# EAGLE library part 74HC (library ArdDisp)
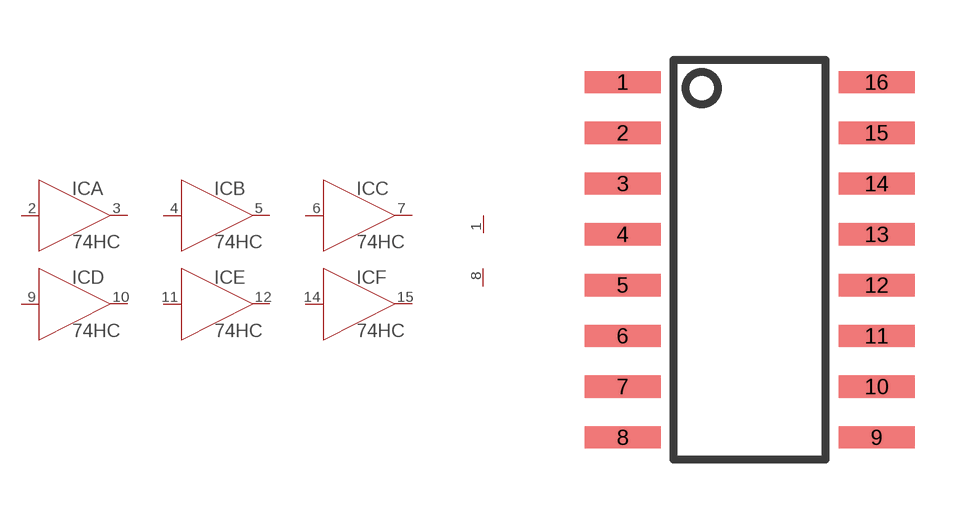
[diagram p17: symbol with the pads of SO16; footprint SO16]

Designator prefix IC; gates A=4050 B=4050 C=4050 D=4050 E=4050 F=4050 G$1=PWRN

## 74HC4050-SO16  [SO16]
1  G$1:VCC  in
2  A:IN  in
3  A:OUT  out
4  B:IN  in
5  B:OUT  out
6  C:IN  in
7  C:OUT  out
8  G$1:GND  in
9  D:IN  in
10  D:OUT  out
11  E:IN  in
12  E:OUT  out
14  F:IN  in
15  F:OUT  out

## Footprint SO16 (pad centres in mm)
Pady jsou v mil/12.5 rozmery nejsou overeny se skutecnosti Hořa
smd 1.905 x 0.559: 1 -3.175,4.445; 2 -3.175,3.175; 3 -3.175,1.905; 4 -3.175,0.635; 5 -3.175,-0.635; 6 -3.175,-1.905; 7 -3.175,-3.175; 8 -3.175,-4.445; 9 3.175,-4.445; 10 3.175,-3.175; 11 3.175,-1.905; 12 3.175,-0.635; 13 3.175,0.635; 14 3.175,1.905; 15 3.175,3.175; 16 3.175,4.445